# EAGLE library part ESP8266-ESP01 (library angrypig7-Boards)
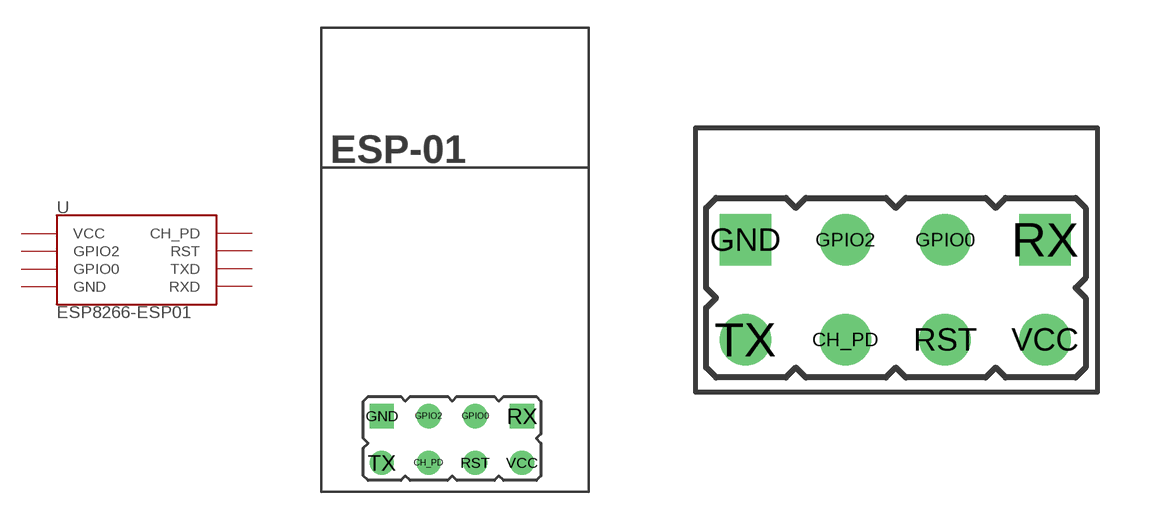
[diagram p3: symbol with the pads of ESP8266-ESP01; footprints ESP8266-ESP01, ESP8266-ESP01-PINOUT]

Designator prefix U

## ESP8266-ESP01  [ESP8266-ESP01]
CH_PD  CH_PD
GND  GND
GPIO0  GPIO0
GPIO2  GPIO2
RST  RST
RX  RXD
TX  TXD
VCC  VCC

## ESP8266-ESP01_PINOUT  [ESP8266-ESP01-PINOUT]
Pads as for ESP8266-ESP01

## Footprint ESP8266-ESP01 (pad centres in mm)
drill 0.8: CH_PD -1.285,-1.192; GPIO0 1.255,1.347; GPIO2 -1.285,1.347; RST 1.255,-1.192; TX -3.825,-1.192; VCC 3.795,-1.192
drill 0.8 square: GND -3.825,1.347; RX 3.795,1.347

## Footprint ESP8266-ESP01-PINOUT (pad centres in mm)
drill 0.8: CH_PD -1.285,-1.192; GPIO0 1.255,1.347; GPIO2 -1.285,1.347; RST 1.255,-1.192; TX -3.825,-1.192; VCC 3.795,-1.192
drill 0.8 square: GND -3.825,1.347; RX 3.795,1.347